# Altium schematic symbol library PPTC082LFBN-RC.SchLib: 1 symbol
Pins are listed as number, name and electrical type; pins without a type are passive.

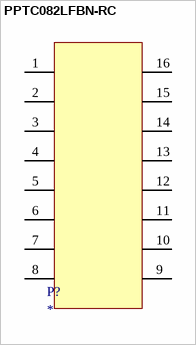
[diagram p0: symbol PPTC082LFBN-RC]

## PPTC082LFBN-RC
designator P?
2x8 header female
pins: 1, 2, 3, 4, 5, 6, 7, 8, 9, 10, 11, 12, 13, 14, 15, 16